# Altium schematic symbol library Zeter.SchLib: 29 symbols
Pins are listed as number, name and electrical type; pins without a type are passive.

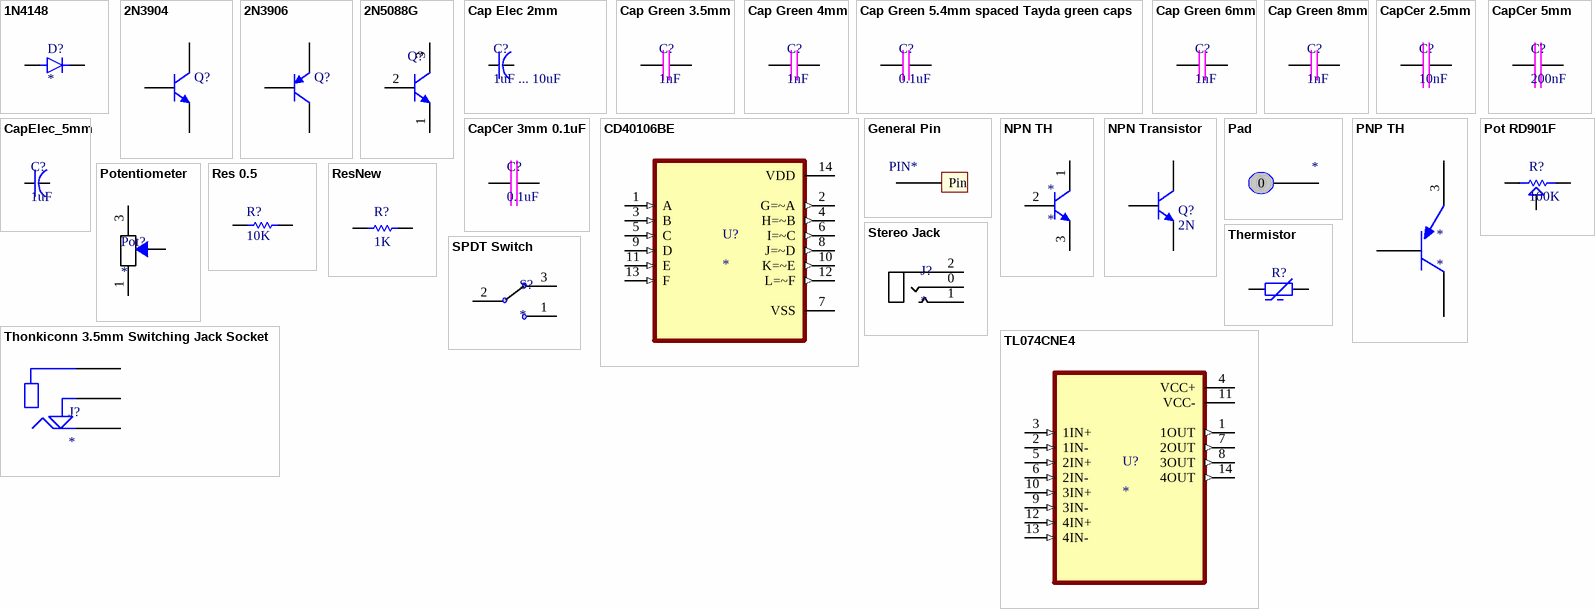
[diagram p0: symbols 1N4148 to TL074CNE4]

## 1N4148
designator D?
Diode Standard 75V 200mA Surface Mount SOD-523F; MF: onsemi; MP: 1N4148; SnapEDA_Link: https://www.snapeda.com/parts/1N4148/Onsemi/view-part/?ref=snap; Package: AXIAL LEAD-2 ON Semiconductor; Value: *; Check_prices: https://www.snapeda.com/parts/1N4148/Onsemi/view-part/?ref=eda
footprint DIODE TH .4 spacing
pins: A, C

## 2N3904
designator Q?
NPN General Purpose Amplifier; Published: 8-Jun-2000; LatestRevisionDate: 15-Jan-2003; LatestRevisionNote: PCB Footprint 'BCY-W3/D4.7' replaced; DatasheetVersion: 1997; PackageVersion: Sep-1998; PackageReference: TO-92A; Publisher: Altium Limited; PackageDescription: TO, Flat Index; 3 In-Line, Axial Leads; Body Dia. 4.5mm; Leads 0.51 x 0.48 mm (max); ComponentLink1Description: Manufacturer Link; ComponentLink1URL: http://www.fairchildsemi.com/; ComponentLink2Description: Datasheet; ComponentLink2URL: http://www.fairchildsemi.com/ds/2N%2F2N3904.pdf
footprint TO-92A (TO, Flat Index; 3 In-Line, Axial Leads; Body Dia. 4.5mm; Leads 0.51 x 0.48 mm (max))
simulation model 2N3904 (NPN)
signal-integrity model 2N3904
pins: 1 E, 2 B, 3 C

## 2N3906
designator Q?
PNP General Purpose Amplifier; Published: 8-Jun-2000; LatestRevisionDate: 15-Jan-2003; LatestRevisionNote: PCB Footprint 'BCY-W3/D4.7' replaced; DatasheetVersion: 1997; PackageVersion: Sep-1998; PackageReference: TO-92A; Publisher: Altium Limited; PackageDescription: TO, Flat Index; 3 In-Line, Axial Leads; Body Dia. 4.5mm; Leads 0.51 x 0.48 mm (max); ComponentLink1Description: Manufacturer Link; ComponentLink1URL: http://www.fairchildsemi.com/; ComponentLink2Description: Datasheet; ComponentLink2URL: http://www.fairchildsemi.com/ds/2N%2F2N3906.pdf
footprint TO-92A (TO, Flat Index; 3 In-Line, Axial Leads; Body Dia. 4.5mm; Leads 0.51 x 0.48 mm (max))
simulation model 2N3906 (PNP)
signal-integrity model 2N3906
pins: 1 E, 2 B, 3 C

## 2N5088G
designator Q?
Amplifier Transistor, NPN Silicon, 3-Pin TO-92, Pb-Free, Bulk Box; Manufacturer: On Semiconductor; PartNumber: 2N5088G; fT Min (MHz): 50; IC Continuous (A): 0.05; DatasheetVersion: Rev. 4; PackageVersion: Rev. AM; PackageReference: TO-92-3-29-11_AM_SL; PackageDescription: 3-Pin Transistor Outline, Body 4.825 x 3.685 mm, Pitch 1.27 mm; Supplier 1: Newark; Supplier Part Number 1: 42K3133; Supplier 2: Mouser; Supplier Part Number 2: 863-2N5088G; Packing: Bulk Box; Polarity: NPN; RoHS: TRUE; Mounting Technology: Through Hole; ComponentLink1Description: Manufacturer URL; ComponentLink1URL: http://www.onsemi.com/; ComponentLink2Description: Datasheet; ComponentLink2URL: http://www.onsemi.com/pub_link/Collateral/2N5088-D.PDF; ComponentLink3Description: Package Specification; ComponentLink3URL: http://www.onsemi.cn/pub_link/Collateral/2N6426-D.PDF
footprint ONSC-TO-92-3-29-11 (TO, 3-Leads, Body Dia 4.7mm, Pitch 1.27mm)
pins: 1 E, 2 B, 3 C

## Cap Elec 2mm
designator C?, comment 1uF ... 10uF
2mm Lead Spaced Electro Cap
footprint Capacitor Electrolytic 2mm
pins: 1, 2

## Cap Green 3.5mm
designator C?, comment 1nF
3.5mm spaced leads for green caps
footprint Cap Green 3.5mm (3.5mm spacing)
pins: 1, 2

## Cap Green 4mm
designator C?, comment 1nF
4mm spaced leads for green caps
footprint Cap Green 4mm (4mm spacing)
pins: 1, 2

## Cap Green 5.4mm spaced Tayda green caps
designator C?, comment 0.1uF
5.4mm spaced Tayda green caps
footprint Cap Green 5.4mm (5.4mm spacing for Tayda)
pins: 1, 2

## Cap Green 6mm
designator C?, comment 1nF
6mm spaced leads for green caps
footprint Cap Green 6mm (6mm spacing)
pins: 1, 2

## Cap Green 8mm
designator C?, comment 1nF
8mm spaced leads for green caps
footprint Cap Green 8mm (8mm spacing)
pins: 1, 2

## CapCer 2.5mm
designator C?, comment 10nF
Ceramic Capactiro 2.5mm spaced leads
footprint CapCer 2.5
pins: 1, 2

## CapCer 3mm 0.1uF
designator C?, comment 0.1uF
Ceramic Capacitor 3mm spaced leads
footprint CapCer 3mm
pins: 1, 2

## CapCer 5mm
designator C?, comment 200nF
5mm Spaced Ceramic Capacitor Leads
footprint CapCer 5
pins: 1, 2

## CapElec_5mm
designator C?, comment 1uF
5mm Lead Spaced Electro Cap
footprint Capacitor Electrolytic 5mm
pins: 1, 2

## CD40106BE
designator U?
6-ch, 3-V to 18-V inverters with Schmitt-Trigger inputs; MF: Texas Instruments; MP: CD40106BE; SnapEDA_Link: https://www.snapeda.com/parts/CD40106BE/Texas+Instruments/view-part/?ref=snap; Package: PDIP-14 Texas Instruments; Value: *; Check_prices: https://www.snapeda.com/parts/CD40106BE/Texas+Instruments/view-part/?ref=eda
footprint DIP794W45P254L1969H508Q14
pins: 1 A (in), 2 G=~A (out), 3 B (in), 4 H=~B (out), 5 C (in), 6 I=~C (out), 7 VSS (power), 8 J=~D (out), 9 D (in), 10 K=~E (out), 11 E (in), 12 L=~F (out), 13 F (in), 14 VDD (power)

## General Pin
designator PIN*, comment General Purpose I/I Pin  (value not drawn)
General Purpose I/O pin
footprint Pin (General Purpose I/O pin)
pins: 0 Pin

## NPN TH
designator *
footprint NPN TH
pins: 1 C, 2 B, 3 E

## NPN Transistor
designator Q?, comment 2N
NPN  Larger Leg Spacing
footprint NPN Transistor Wide (Wide Leg Spacing)
pins: 1 C, 2 B, 3 E

## Pad
designator *, comment General purpose pad  (value not drawn)
footprint Pin (General Purpose I/O pin)
pins: 0

## PNP TH
designator *
footprint PNP
footprint PNP TH
pins: 1 C, 2 B, 3 E

## Pot RD901F
designator R?, comment 100K
Potentiometers 9mm Linear 100K Round Shaft / RD901F-40-15R1-B100K-00DL1; MF: Alpha (Taiwan); SnapEDA_Link: https://www.snapeda.com/parts/RD901F-40-15R1-B100K-00DL1/Alpha+Taiwan/view-part/?ref=snap; Package: None; MP: RD901F-40-15R1-B100K-00DL1; Check_prices: https://www.snapeda.com/parts/RD901F-40-15R1-B100K-00DL1/Alpha+Taiwan/view-part/?ref=eda; Value: *
footprint POT_RD901F-40-15R1-B100K-00DL1
pins: 1, 2, 3

## Potentiometer
designator Pot?
My Own
footprint Potentiometer (Normal Pinout)
pins: 1, 2 "Wiper", 3

## Res 0.5
designator R?, comment 10K
Radial 1/4 Watt Tayda; Value: 1K; Published: 8-Jun-2000; LatestRevisionDate: 17-Jul-2002; LatestRevisionNote: Re-released for DXP Platform.; PackageReference: AXIAL-0.3; Publisher: Altium Limited; PackageDescription: Axial Device, Thru-Hole; 2 Leads; 0.3 in Pin Spacing
footprint RES Axial 0.5 Tayda
pins: 1, 2

## ResNew
designator R?, comment 1K
Radial 1/4 Watt Tayda; Datasheet: https://www.taydaelectronics.com/datasheets/files/royalohmprecisionmetalmf.pdf
footprint Res Axial Tayda 1/4 1%
pins: 1, 2

## SPDT Switch
designator S?
SPDT Switch
footprint SPDT Switch
pins: 1, 2, 3

## Stereo Jack
designator J?
Stereo Jack
footprint Stereo Jack
pins: 0 Ring, 1 Tip, 2 Sleeve

## Thermistor
designator R?
10K OHM NTC Thermistor 5mm; Manufacturer: THINKING; DS: https://www.taydaelectronics.com/datasheets/A-409.pdf
footprint Thermistor
pins: 1, 2

## Thonkiconn 3.5mm Switching Jack Socket
designator J?
DS: https://www.thonk.co.uk/wp-content/uploads/2018/07/Thonkiconn_Jack_Datasheet-new.jpg
footprint Thonkiconn 3.5mm Switching Jack Socket
pins: 1, 2, 3

## TL074CNE4
designator U?
Quad Low-Noise JFET-Input General-Purpose Operational Amplifier 14-PDIP 0 to 70; MF: Texas Instruments; MP: TL074CNE4; SnapEDA_Link: https://www.snapeda.com/parts/TL074CNE4/Texas+Instruments/view-part/?ref=snap; Package: PDIP-14 Texas Instruments; Value: *; Check_prices: https://www.snapeda.com/parts/TL074CNE4/Texas+Instruments/view-part/?ref=eda
footprint DIP794W45P254L1969H508Q14
pins: 1 1OUT (out), 2 1IN- (in), 3 1IN+ (in), 4 VCC+ (power), 5 2IN+ (in), 6 2IN- (in), 7 2OUT (out), 8 3OUT (out), 9 3IN- (in), 10 3IN+ (in), 11 VCC- (power), 12 4IN+ (in), 13 4IN- (in), 14 4OUT (out)